# Altium footprint library Logic - Buffers, Drivers, Receivers, Transceivers.PcbLib: 3 footprints
Each footprint in its own frame and in the unit in brackets; x right, y up, seen from the top. Pads: shape width x height; smd on the part's side, far side on the other; paste and mask are expansions set on the pad; w line width, h text height; cw(c..) or ccw(c..) is an arc to the next point about the centre after c.
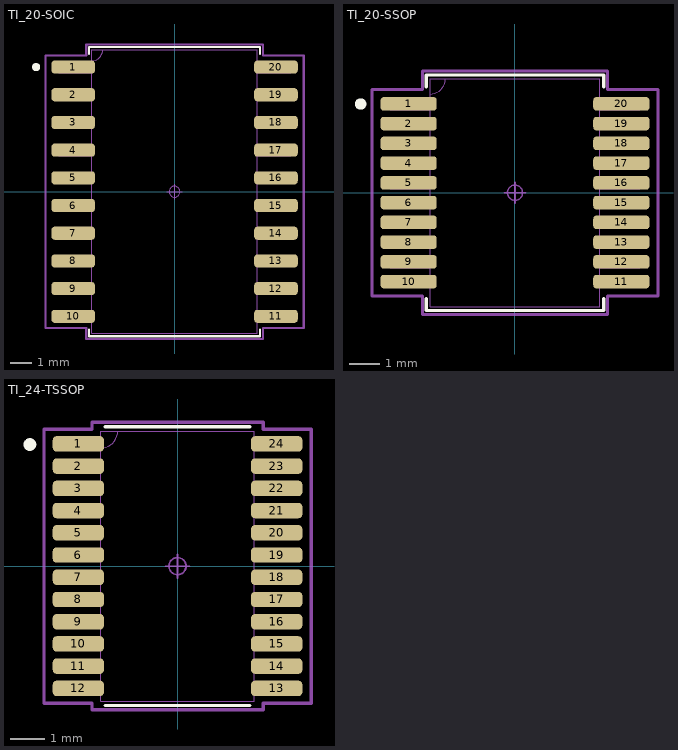
[diagram p0: the footprints below, top view; thin cyan lines are the x and y axes]

## TI_20-SOIC [mm]
pads (20):
  rrect50% 2x0.6 smd paste+0 mask+0.04: 1(-4.65,5.715) 2(-4.65,4.445) 3(-4.65,3.175) 4(-4.65,1.905) 5(-4.65,0.635) 6(-4.65,-0.635) 7(-4.65,-1.905) 8(-4.65,-3.175) 9(-4.65,-4.445) 10(-4.65,-5.715) 11(4.65,-5.715) 12(4.65,-4.445) 13(4.65,-3.175) 14(4.65,-1.905) 15(4.65,-0.635) 16(4.65,0.635) 17(4.65,1.905) 18(4.65,3.175) 19(4.65,4.445) 20(4.65,5.715)
Top Overlay:
  circle w0.2: c-6.35,5.715 r0.087
  lines w0.1: -3.924,-6.327 -3.924,-6.629 3.924,-6.629 3.924,-6.327 ; -3.924,6.327 -3.924,6.629 3.924,6.629 3.924,6.327
Mechanical 13:
  lines w0.025: -3.802,5.977 -5.321,5.969 -5.321,5.461 -3.797,5.461 -3.797,5.969 ; -3.797,6.002 ccw(c-3.797,6.502) -3.297,6.502 ; -5.321,-5.969 -5.321,-5.461 -3.797,-5.461 -3.797,-5.969 -5.321,-5.969 ; -5.321,-4.699 -5.321,-4.191 -3.797,-4.191 -3.797,-4.699 -5.321,-4.699 ; -5.321,-3.429 -5.321,-2.921 -3.797,-2.921 -3.797,-3.429 -5.321,-3.429 ; -5.321,-2.159 -5.321,-1.651 -3.797,-1.651 -3.797,-2.159 -5.321,-2.159 ; -5.321,-0.889 -5.321,-0.381 -3.797,-0.381 -3.797,-0.889 -5.321,-0.889 ; -5.321,0.381 -5.321,0.889 -3.797,0.889 -3.797,0.381 -5.321,0.381 ; -5.321,1.651 -5.321,2.159 -3.797,2.159 -3.797,1.651 -5.321,1.651 ; -5.321,2.921 -5.321,3.429 -3.797,3.429 -3.797,2.921 -5.321,2.921 ; -5.321,4.191 -5.321,4.699 -3.797,4.699 -3.797,4.191 -5.321,4.191 ; -3.797,-6.502 3.797,-6.502 3.797,6.502 -3.797,6.502 -3.797,-6.502 ; 3.797,-5.969 3.797,-5.461 5.321,-5.461 5.321,-5.969 3.797,-5.969 ; 3.797,-4.699 3.797,-4.191 5.321,-4.191 5.321,-4.699 3.797,-4.699 ; 3.797,-3.429 3.797,-2.921 5.321,-2.921 5.321,-3.429 3.797,-3.429 ; 3.797,-2.159 3.797,-1.651 5.321,-1.651 5.321,-2.159 3.797,-2.159 ; 3.797,-0.889 3.797,-0.381 5.321,-0.381 5.321,-0.889 3.797,-0.889 ; 3.797,0.381 3.797,0.889 5.321,0.889 5.321,0.381 3.797,0.381 ; 3.797,1.651 3.797,2.159 5.321,2.159 5.321,1.651 3.797,1.651 ; 3.797,2.921 3.797,3.429 5.321,3.429 5.321,2.921 3.797,2.921 ; 3.797,4.191 3.797,4.699 5.321,4.699 5.321,4.191 3.797,4.191 ; 3.797,5.461 3.797,5.969 5.321,5.969 5.321,5.461 3.797,5.461
Mechanical 15:
  circle w0.05: c0,0 r0.25
  lines w0.05: -0.35,0 0.35,0 ; 0,-0.35 0,0.35
  lines w0.1: -5.925,-6.248 -4.051,-6.248 -4.051,-6.756 4.051,-6.756 4.051,-6.248 5.925,-6.248 5.925,6.248 4.051,6.248 4.051,6.756 -4.051,6.756 -4.051,6.248 -5.925,6.248 -5.925,-6.248
3D body "DW20.step": height 2.64, standoff 0, extent -5.321,-6.502 5.321,6.502

## TI_20-SSOP [mm]
pads (20):
  rrect50% 1.85x0.45 smd paste+0 mask+0.04: 1(-3.5,2.925) 2(-3.5,2.275) 3(-3.5,1.625) 4(-3.5,0.975) 5(-3.5,0.325) 6(-3.5,-0.325) 7(-3.5,-0.975) 8(-3.5,-1.625) 9(-3.5,-2.275) 10(-3.5,-2.925) 11(3.5,-2.925) 12(3.5,-2.275) 13(3.5,-1.625) 14(3.5,-0.975) 15(3.5,-0.325) 16(3.5,0.325) 17(3.5,0.975) 18(3.5,1.625) 19(3.5,2.275) 20(3.5,2.925)
Top Overlay:
  circle w0.2: c-5.08,2.921 r0.087
  lines w0.1: -2.921,-3.473 -2.921,-3.873 2.921,-3.873 2.921,-3.473 ; -2.921,3.473 -2.921,3.873 2.921,3.873 2.921,3.473
Mechanical 13:
  lines w0.025: -2.794,3.247 ccw(c-2.794,3.746) -2.294,3.746 ; -4.102,-3.115 -2.794,-3.115 -2.794,-2.734 -4.102,-2.734 -4.102,-3.115 ; -4.102,-2.465 -2.794,-2.465 -2.794,-2.084 -4.102,-2.084 -4.102,-2.465 ; -4.102,-1.815 -2.794,-1.815 -2.794,-1.434 -4.102,-1.434 -4.102,-1.815 ; -4.102,-1.165 -2.794,-1.165 -2.794,-0.784 -4.102,-0.784 -4.102,-1.165 ; -4.102,-0.515 -2.794,-0.515 -2.794,-0.134 -4.102,-0.134 -4.102,-0.515 ; -4.102,0.135 -2.794,0.135 -2.794,0.516 -4.102,0.516 -4.102,0.135 ; -4.102,0.784 -2.794,0.784 -2.794,1.165 -4.102,1.165 -4.102,0.784 ; -4.102,1.435 -2.794,1.435 -2.794,1.816 -4.102,1.816 -4.102,1.435 ; -4.102,2.084 -2.794,2.084 -2.794,2.465 -4.102,2.465 -4.102,2.084 ; -4.102,2.735 -2.794,2.735 -2.794,3.116 -4.102,3.116 -4.102,2.735 ; -2.794,-3.746 -2.794,3.746 2.794,3.746 2.794,-3.746 -2.794,-3.746 ; 2.794,-3.116 4.102,-3.116 4.102,-2.735 2.794,-2.735 2.794,-3.116 ; 2.794,-2.466 4.102,-2.466 4.102,-2.085 2.794,-2.085 2.794,-2.466 ; 2.794,-1.816 4.102,-1.816 4.102,-1.435 2.794,-1.435 2.794,-1.816 ; 2.794,-1.166 4.102,-1.166 4.102,-0.785 2.794,-0.785 2.794,-1.166 ; 2.794,-0.516 4.102,-0.516 4.102,-0.135 2.794,-0.135 2.794,-0.516 ; 2.794,0.134 4.102,0.134 4.102,0.515 2.794,0.515 2.794,0.134 ; 2.794,0.784 4.102,0.784 4.102,1.165 2.794,1.165 2.794,0.784 ; 2.794,1.434 4.102,1.434 4.102,1.815 2.794,1.815 2.794,1.434 ; 2.794,2.084 4.102,2.084 4.102,2.465 2.794,2.465 2.794,2.084 ; 2.794,2.734 4.102,2.734 4.102,3.115 2.794,3.115 2.794,2.734
Mechanical 15:
  circle w0.05: c0,0 r0.25
  lines w0.05: -0.35,0 0.35,0 ; 0,-0.35 0,0.35
  lines w0.1: -4.706,-3.394 -3.048,-3.394 -3.048,-4 3.048,-4 3.048,-3.394 4.706,-3.394 4.706,3.394 3.048,3.394 3.048,4 -3.048,4 -3.048,3.394 -4.706,3.394 -4.706,-3.394
3D body "DB20.step": height 2.01, standoff 0, extent -4.102,-3.746 4.102,3.746

## TI_24-TSSOP [mm]
pads (24):
  rrect50% 1.5x0.45 smd paste+0 mask+0.04: 1(-2.9,3.575) 2(-2.9,2.925) 3(-2.9,2.275) 4(-2.9,1.625) 5(-2.9,0.975) 6(-2.9,0.325) 7(-2.9,-0.325) 8(-2.9,-0.975) 9(-2.9,-1.625) 10(-2.9,-2.275) 11(-2.9,-2.925) 12(-2.9,-3.575) 13(2.9,-3.575) 14(2.9,-2.925) 15(2.9,-2.275) 16(2.9,-1.625) 17(2.9,-0.975) 18(2.9,-0.325) 19(2.9,0.325) 20(2.9,0.975) 21(2.9,1.625) 22(2.9,2.275) 23(2.9,2.925) 24(2.9,3.575)
Top Overlay:
  circle w0.2: c-4.318,3.556 r0.087
  lines w0.1: -2.116,-4.077 2.116,-4.077 ; -2.116,4.077 2.116,4.077
Mechanical 13:
  lines w0.025: -2.248,3.45 ccw(c-2.248,3.95) -1.748,3.95 ; -3.302,-3.727 -3.302,-3.423 -2.248,-3.423 -2.248,-3.727 -3.302,-3.727 ; -3.302,-3.077 -3.302,-2.773 -2.248,-2.773 -2.248,-3.077 -3.302,-3.077 ; -3.302,-2.427 -3.302,-2.123 -2.248,-2.123 -2.248,-2.427 -3.302,-2.427 ; -3.302,-1.777 -3.302,-1.473 -2.248,-1.473 -2.248,-1.777 -3.302,-1.777 ; -3.302,-1.127 -3.302,-0.823 -2.248,-0.823 -2.248,-1.127 -3.302,-1.127 ; -3.302,-0.477 -3.302,-0.173 -2.248,-0.173 -2.248,-0.477 -3.302,-0.477 ; -3.302,0.173 -3.302,0.477 -2.248,0.477 -2.248,0.173 -3.302,0.173 ; -3.302,0.823 -3.302,1.127 -2.248,1.127 -2.248,0.823 -3.302,0.823 ; -3.302,1.473 -3.302,1.777 -2.248,1.777 -2.248,1.473 -3.302,1.473 ; -3.302,2.123 -3.302,2.427 -2.248,2.427 -2.248,2.123 -3.302,2.123 ; -3.302,2.773 -3.302,3.077 -2.248,3.077 -2.248,2.773 -3.302,2.773 ; -3.302,3.423 -3.302,3.727 -2.248,3.727 -2.248,3.423 -3.302,3.423 ; -2.248,-3.95 2.248,-3.95 2.248,3.95 -2.248,3.95 -2.248,-3.95 ; 2.248,-3.727 2.248,-3.423 3.302,-3.423 3.302,-3.727 2.248,-3.727 ; 2.248,-3.077 2.248,-2.773 3.302,-2.773 3.302,-3.077 2.248,-3.077 ; 2.248,-2.427 2.248,-2.123 3.302,-2.123 3.302,-2.427 2.248,-2.427 ; 2.248,-1.777 2.248,-1.473 3.302,-1.473 3.302,-1.777 2.248,-1.777 ; 2.248,-1.127 2.248,-0.823 3.302,-0.823 3.302,-1.127 2.248,-1.127 ; 2.248,-0.477 2.248,-0.173 3.302,-0.173 3.302,-0.477 2.248,-0.477 ; 2.248,0.173 2.248,0.477 3.302,0.477 3.302,0.173 2.248,0.173 ; 2.248,0.823 2.248,1.127 3.302,1.127 3.302,0.823 2.248,0.823 ; 2.248,1.473 2.248,1.777 3.302,1.777 3.302,1.473 2.248,1.473 ; 2.248,2.123 2.248,2.427 3.302,2.427 3.302,2.123 2.248,2.123 ; 2.248,2.773 2.248,3.077 3.302,3.077 3.302,2.773 2.248,2.773 ; 2.248,3.423 2.248,3.727 3.302,3.727 3.302,3.423 2.248,3.423
Mechanical 15:
  circle w0.05: c0,0 r0.25
  lines w0.05: -0.35,0 0.35,0 ; 0,-0.35 0,0.35
  lines w0.1: -3.906,-4.006 -3.906,4.006 -2.502,4.006 -2.502,4.204 2.502,4.204 2.502,4.006 3.906,4.006 3.906,-4.006 2.502,-4.006 2.502,-4.204 -2.502,-4.204 -2.502,-4.006 -3.906,-4.006
3D body "PW24.step": height 1.2, standoff 0, extent -3.302,-3.95 3.302,3.95